# EAGLE library part 690367281876 (library Wuerth_Elektronik_eiCan_MiniModule_Connectors_v1.2)
WR-MM Female SMT Connector with Polarization, 18 pins
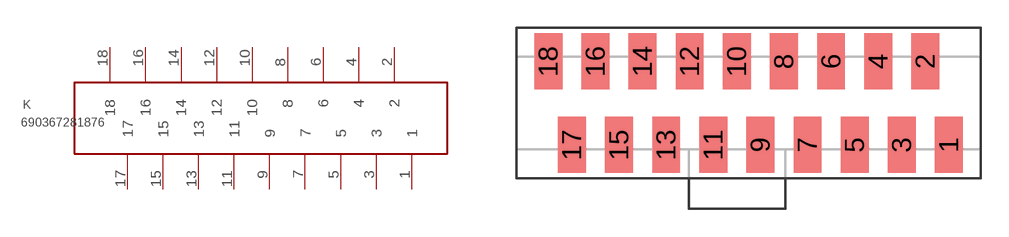
[diagram p94: symbol with the pads of 690367281876; footprint 690367281876]

Designator prefix K

## 690367281876  [690367281876]
1  1  pas
2  2  pas
3  3  pas
4  4  pas
5  5  pas
6  6  pas
7  7  pas
8  8  pas
9  9  pas
10  10  pas
11  11  pas
12  12  pas
13  13  pas
14  14  pas
15  15  pas
16  16  pas
17  17  pas
18  18  pas

## Footprint 690367281876 (pad centres in mm)
WR-MM Female SMT Connector with Polarization, 18 pins
smd 1.5 x 3: 1 11.43,-2.25; 2 10.16,2.25; 3 8.89,-2.25; 4 7.62,2.25; 5 6.35,-2.25; 6 5.08,2.25; 7 3.81,-2.25; 8 2.54,2.25; 9 1.27,-2.25; 10 0,2.25; 11 -1.27,-2.25; 12 -2.54,2.25; 13 -3.81,-2.25; 14 -5.08,2.25; 15 -6.35,-2.25; 16 -7.62,2.25; 17 -8.89,-2.25; 18 -10.16,2.25